# EAGLE library part SN74LVC1G58DCKR (library RoboJackets-ICs)
Configurable Multiple Function Configurable 1 Circuit 3 Input SC-70-6 DigiKey< <https://www.digikey.com/product-detail/en/texas-instruments/SN74LVC1G58DCKR/296-15577-1-ND/571153>
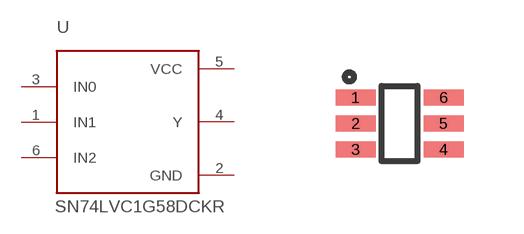
[diagram p44: symbol with the pads of SC-70-6; footprint SC-70-6]

Designator prefix U

## SN74LVC1G58DCKR (DKPN: 296-15577-1-ND)  [SC-70-6]
1  IN1  pas
2  GND  pas
3  IN0  pas
4  Y  pas
5  VCC  pas
6  IN2  pas

## Footprint SC-70-6 (pad centres in mm)
smd 1 x 0.4: 1 -1.1,0.65; 2 -1.1,0; 3 -1.1,-0.65; 4 1.1,-0.65; 5 1.1,0; 6 1.1,0.65